# Altium footprint library DIP_LIB.PcbLib: 26 footprints (part 2 of 2)
Each footprint in its own frame and in the unit in brackets; x right, y up, seen from the top. Pads: shape width x height; smd on the part's side, far side on the other; paste and mask are expansions set on the pad; w line width, h text height; cw(c..) or ccw(c..) is an arc to the next point about the centre after c.
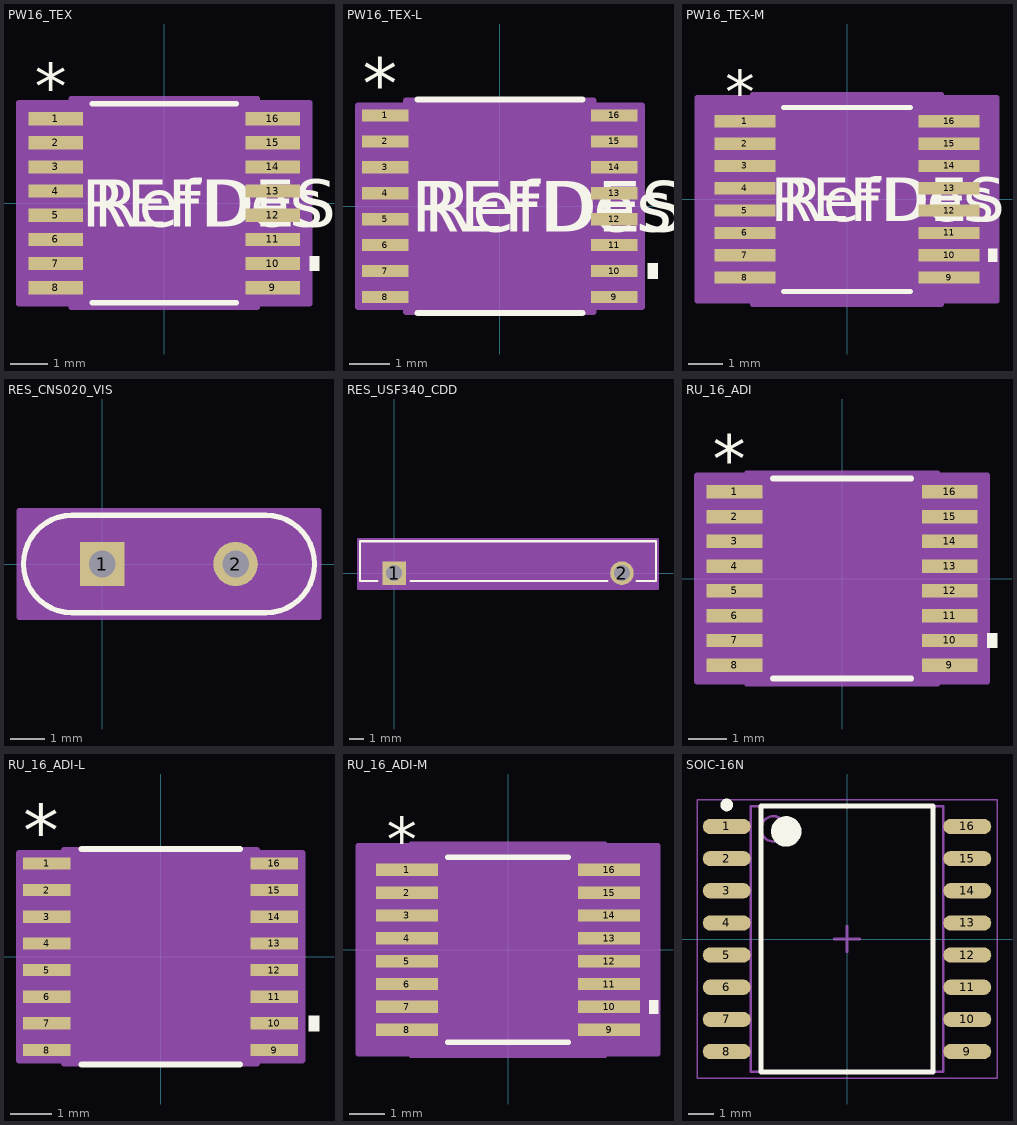
[diagram p1: the footprints below, top view; thin cyan lines are the x and y axes]

## PW16_TEX [mil]
pads (16):
  rect 58x14 smd paste+0 mask+0: 1(-115,89.57) 2(-115,63.98) 3(-115,38.39) 4(-115,12.8) 5(-115,-12.8) 6(-115,-38.39) 7(-115,-63.98) 8(-115,-89.57) 9(115,-89.57) 10(115,-63.98) 11(115,-38.39) 12(115,-12.8) 13(115,12.8) 14(115,38.39) 15(115,63.98) 16(115,89.57)
Top Overlay:
  region: 154,-56.48 164,-56.48 164,-71.48 154,-71.48
  lines w6: -76.42,-105.5 76.42,-105.5 ; -76.42,105.5 76.42,105.5
  text "REFDES" at -87.5,-25 h50
  text "*" at -137.5,98.57 h50
  text "RefDes" at -75,-25 h50
Mechanical 13:
  lines w0: -12,100.5 ccw(c0,100.5) 12,100.5
  lines w1: -130,-95.57 -130,-83.57 -88.5,-83.57 -88.5,-95.57 -130,-95.57 ; -130,-69.98 -130,-57.98 -88.5,-57.98 -88.5,-69.98 -130,-69.98 ; -130,-44.39 -130,-32.39 -88.5,-32.39 -88.5,-44.39 -130,-44.39 ; -130,-18.8 -130,-6.8 -88.5,-6.8 -88.5,-18.8 -130,-18.8 ; -130,6.8 -130,18.8 -88.5,18.8 -88.5,6.8 -130,6.8 ; -130,32.39 -130,44.39 -88.5,44.39 -88.5,32.39 -130,32.39 ; -130,57.98 -130,69.98 -88.5,69.98 -88.5,57.98 -130,57.98 ; -130,83.57 -130,95.57 -88.5,95.57 -88.5,83.57 -130,83.57 ; -88.5,-100.5 88.5,-100.5 88.5,100.5 -88.5,100.5 -88.5,-100.5 ; 88.5,-95.57 88.5,-83.57 130,-83.57 130,-95.57 88.5,-95.57 ; 88.5,-69.98 88.5,-57.98 130,-57.98 130,-69.98 88.5,-69.98 ; 88.5,-44.39 88.5,-32.39 130,-32.39 130,-44.39 88.5,-44.39 ; 88.5,-18.8 88.5,-6.8 130,-6.8 130,-18.8 88.5,-18.8 ; 88.5,6.8 88.5,18.8 130,18.8 130,6.8 88.5,6.8 ; 88.5,32.39 88.5,44.39 130,44.39 130,32.39 88.5,32.39 ; 88.5,57.98 88.5,69.98 130,69.98 130,57.98 88.5,57.98 ; 88.5,83.57 88.5,95.57 130,95.57 130,83.57 88.5,83.57
  text "*" at -86,47.5 h50
  text "RefDes2" at -87.5,-25 h50
Mechanical 15:
  region: -98.5,-106.57 -154,-106.57 -154,106.57 -98.5,106.57 -98.5,110.5 98.5,110.5 98.5,106.57 154,106.57 154,-106.57 98.5,-106.57 98.5,-110.5 -98.5,-110.5
  lines w6: -154,-106.57 -154,106.57 -98.5,106.57 -98.5,110.5 98.5,110.5 98.5,106.57 154,106.57 154,-106.57 98.5,-106.57 98.5,-110.5 -98.5,-110.5 -98.5,-106.57 -154,-106.57
3D body "PW16_TEX.step": height 47.09, standoff 0, extent -130,-100.51 130,100.51

## PW16_TEX-L [mil]
pads (16):
  rect 46x12 smd paste+0 mask+0: 1(-113,89.57) 2(-113,63.98) 3(-113,38.39) 4(-113,12.8) 5(-113,-12.8) 6(-113,-38.39) 7(-113,-63.98) 8(-113,-89.57) 9(113,-89.57) 10(113,-63.98) 11(113,-38.39) 12(113,-12.8) 13(113,12.8) 14(113,38.39) 15(113,63.98) 16(113,89.57)
Top Overlay:
  region: 146,-56.48 156,-56.48 156,-71.48 146,-71.48
  lines w6: -81.46,-105.5 81.46,-105.5 ; -81.46,105.5 81.46,105.5
  text "REFDES" at -87.5,-25 h50
  text "*" at -135.5,96.57 h50
  text "RefDes" at -75,-25 h50
Mechanical 13:
  lines w0: -12,100.5 ccw(c0,100.5) 12,100.5
  lines w1: -130,-95.57 -130,-83.57 -88.5,-83.57 -88.5,-95.57 -130,-95.57 ; -130,-69.98 -130,-57.98 -88.5,-57.98 -88.5,-69.98 -130,-69.98 ; -130,-44.39 -130,-32.39 -88.5,-32.39 -88.5,-44.39 -130,-44.39 ; -130,-18.8 -130,-6.8 -88.5,-6.8 -88.5,-18.8 -130,-18.8 ; -130,6.8 -130,18.8 -88.5,18.8 -88.5,6.8 -130,6.8 ; -130,32.39 -130,44.39 -88.5,44.39 -88.5,32.39 -130,32.39 ; -130,57.98 -130,69.98 -88.5,69.98 -88.5,57.98 -130,57.98 ; -130,83.57 -130,95.57 -88.5,95.57 -88.5,83.57 -130,83.57 ; -88.5,-100.5 88.5,-100.5 88.5,100.5 -88.5,100.5 -88.5,-100.5 ; 88.5,-95.57 88.5,-83.57 130,-83.57 130,-95.57 88.5,-95.57 ; 88.5,-69.98 88.5,-57.98 130,-57.98 130,-69.98 88.5,-69.98 ; 88.5,-44.39 88.5,-32.39 130,-32.39 130,-44.39 88.5,-44.39 ; 88.5,-18.8 88.5,-6.8 130,-6.8 130,-18.8 88.5,-18.8 ; 88.5,6.8 88.5,18.8 130,18.8 130,6.8 88.5,6.8 ; 88.5,32.39 88.5,44.39 130,44.39 130,32.39 88.5,32.39 ; 88.5,57.98 88.5,69.98 130,69.98 130,57.98 88.5,57.98 ; 88.5,83.57 88.5,95.57 130,95.57 130,83.57 88.5,83.57
  text "*" at -86,47.5 h50
  text "RefDes2" at -87.5,-25 h50
Mechanical 15:
  region: -92.5,-99.57 -140,-99.57 -140,99.57 -92.5,99.57 -92.5,104.5 92.5,104.5 92.5,99.57 140,99.57 140,-99.57 92.5,-99.57 92.5,-104.5 -92.5,-104.5
  lines w6: -140,-99.57 -140,99.57 -92.5,99.57 -92.5,104.5 92.5,104.5 92.5,99.57 140,99.57 140,-99.57 92.5,-99.57 92.5,-104.5 -92.5,-104.5 -92.5,-99.57 -140,-99.57
3D body "PW16_TEX.step": height 47.09, standoff 0, extent -130,-100.51 130,100.51

## PW16_TEX-M [mil]
pads (16):
  rect 70x14 smd paste+0 mask+0: 1(-117,89.57) 2(-117,63.98) 3(-117,38.39) 4(-117,12.8) 5(-117,-12.8) 6(-117,-38.39) 7(-117,-63.98) 8(-117,-89.57) 9(117,-89.57) 10(117,-63.98) 11(117,-38.39) 12(117,-12.8) 13(117,12.8) 14(117,38.39) 15(117,63.98) 16(117,89.57)
Top Overlay:
  region: 162,-56.48 172,-56.48 172,-71.48 162,-71.48
  lines w6: -72.42,-105.5 72.42,-105.5 ; -72.42,105.5 72.42,105.5
  text "RefDes" at -75,-25 h50
  text "*" at -139.5,98.57 h50
  text "REFDES" at -87.5,-25 h50
Mechanical 13:
  lines w0: -12,100.5 ccw(c0,100.5) 12,100.5
  lines w1: -130,-95.57 -88.5,-95.57 -88.5,-83.57 -130,-83.57 -130,-95.57 ; -130,-69.98 -88.5,-69.98 -88.5,-57.98 -130,-57.98 -130,-69.98 ; -130,-44.39 -88.5,-44.39 -88.5,-32.39 -130,-32.39 -130,-44.39 ; -130,-18.8 -88.5,-18.8 -88.5,-6.8 -130,-6.8 -130,-18.8 ; -130,6.8 -88.5,6.8 -88.5,18.8 -130,18.8 -130,6.8 ; -130,32.39 -88.5,32.39 -88.5,44.39 -130,44.39 -130,32.39 ; -130,57.98 -88.5,57.98 -88.5,69.98 -130,69.98 -130,57.98 ; -130,83.57 -88.5,83.57 -88.5,95.57 -130,95.57 -130,83.57 ; -88.5,-100.5 -88.5,100.5 88.5,100.5 88.5,-100.5 -88.5,-100.5 ; 88.5,-95.57 130,-95.57 130,-83.57 88.5,-83.57 88.5,-95.57 ; 88.5,-69.98 130,-69.98 130,-57.98 88.5,-57.98 88.5,-69.98 ; 88.5,-44.39 130,-44.39 130,-32.39 88.5,-32.39 88.5,-44.39 ; 88.5,-18.8 130,-18.8 130,-6.8 88.5,-6.8 88.5,-18.8 ; 88.5,6.8 130,6.8 130,18.8 88.5,18.8 88.5,6.8 ; 88.5,32.39 130,32.39 130,44.39 88.5,44.39 88.5,32.39 ; 88.5,57.98 130,57.98 130,69.98 88.5,69.98 88.5,57.98 ; 88.5,83.57 130,83.57 130,95.57 88.5,95.57 88.5,83.57
  text "RefDes2" at -87.5,-25 h50
  text "*" at -86,47.5 h50
Mechanical 15:
  region: -108.5,-116.57 -172,-116.57 -172,116.57 -108.5,116.57 -108.5,120.5 108.5,120.5 108.5,116.57 172,116.57 172,-116.57 108.5,-116.57 108.5,-120.5 -108.5,-120.5
  lines w6: -172,-116.57 -108.5,-116.57 -108.5,-120.5 108.5,-120.5 108.5,-116.57 172,-116.57 172,116.57 108.5,116.57 108.5,120.5 -108.5,120.5 -108.5,116.57 -172,116.57 -172,-116.57
3D body "PW16_TEX.step": height 47.09, standoff 0, extent -130,-100.51 130,100.51

## RES_CNS020_VIS [mil]
pads (2):
  rect 50x50 hole 30 paste-25 mask+0: 1(0,0)
  round 50 hole 30 paste-25 mask+0: 2(150,0)
Top Overlay:
  lines w6: -34,-55 cw(c-34,0) -34,55 184,55 cw(c184,0) 239,0 cw(c184,0) 184,-55 -34,-55
  text ".Designator" at -90,-120 h50
Mechanical 13:
  lines w1: -34,-50 cw(c-34,0) -34,50 184,50 cw(c184,0) 184,-50 -34,-50
Mechanical 15:
  region: 244,-60 -94,-60 -94,60 244,60
  lines w6: -94,-60 244,-60 244,60 -94,60 -94,-60
3D body "RES_CNS020_VIS.step": height 260, standoff -156.81, extent -84.02,-50 234.02,50

## RES_USF340_CDD [mil]
pads (2):
  rect 62x62 hole 42 paste-31 mask+0: 1(0,0)
  round 62 hole 42 paste-31 mask+0: 2(600,0)
Top Overlay:
  lines w6: -44.1,-21 -90,-21 -90,84 690,84 690,-21 638.78,-21 ; 44.1,-21 561.22,-21
  text ".Designator" at 162.5,-25 h50
Mechanical 13:
  lines w1: -85,-16 -85,79 685,79 685,-16 -85,-16
  text ".Designator" at 162.5,-25 h50
Mechanical 15:
  region: 695,89 -95,89 -95,-41 695,-41
  lines w6: -95,-41 695,-41 695,89 -95,89 -95,-41

## RU_16_ADI [mm]
pads (16):
  rect 1.461x0.351 smd paste+0 mask+0: 1(-2.825,2.275) 2(-2.825,1.625) 3(-2.825,0.975) 4(-2.825,0.325) 5(-2.825,-0.325) 6(-2.825,-0.975) 7(-2.825,-1.625) 8(-2.825,-2.275) 9(2.825,-2.275) 10(2.825,-1.625) 11(2.825,-0.975) 12(2.825,-0.325) 13(2.825,0.325) 14(2.825,0.975) 15(2.825,1.625) 16(2.825,2.275)
Top Overlay:
  region: 3.81,-1.435 4.064,-1.435 4.064,-1.816 3.81,-1.816
  lines w0.152: -1.812,-2.627 1.812,-2.627 ; -1.812,2.627 1.812,2.627
  text "*" at -3.397,2.499 h1.27
  text ".Designator" at -3.492,-0.635 h1.27
Mechanical 13:
  lines w0.025: -0.305,2.5 ccw(c0,2.5) 0.305,2.5 ; -3.2,-2.425 -2.25,-2.425 -2.25,-2.125 -3.2,-2.125 -3.2,-2.425 ; -3.2,-1.775 -2.25,-1.775 -2.25,-1.475 -3.2,-1.475 -3.2,-1.775 ; -3.2,-1.125 -2.25,-1.125 -2.25,-0.825 -3.2,-0.825 -3.2,-1.125 ; -3.2,-0.475 -2.25,-0.475 -2.25,-0.175 -3.2,-0.175 -3.2,-0.475 ; -3.2,0.175 -2.25,0.175 -2.25,0.475 -3.2,0.475 -3.2,0.175 ; -3.2,0.825 -2.25,0.825 -2.25,1.125 -3.2,1.125 -3.2,0.825 ; -3.2,1.475 -2.25,1.475 -2.25,1.775 -3.2,1.775 -3.2,1.475 ; -3.2,2.125 -2.25,2.125 -2.25,2.425 -3.2,2.425 -3.2,2.125 ; -2.25,-2.5 -2.25,2.5 2.25,2.5 2.25,-2.5 -2.25,-2.5 ; 2.25,-2.425 3.2,-2.425 3.2,-2.125 2.25,-2.125 2.25,-2.425 ; 2.25,-1.775 3.2,-1.775 3.2,-1.475 2.25,-1.475 2.25,-1.775 ; 2.25,-1.125 3.2,-1.125 3.2,-0.825 2.25,-0.825 2.25,-1.125 ; 2.25,-0.475 3.2,-0.475 3.2,-0.175 2.25,-0.175 2.25,-0.475 ; 2.25,0.175 3.2,0.175 3.2,0.475 2.25,0.475 2.25,0.175 ; 2.25,0.825 3.2,0.825 3.2,1.125 2.25,1.125 2.25,0.825 ; 2.25,1.475 3.2,1.475 3.2,1.775 2.25,1.775 2.25,1.475 ; 2.25,2.125 3.2,2.125 3.2,2.425 2.25,2.425 2.25,2.125
  text ".Designator" at -3.492,-0.635 h1.27
  text "*" at -2.187,1.154 h1.27
Mechanical 15:
  region: -2.504,-2.704 -3.81,-2.704 -3.81,2.704 -2.504,2.704 -2.504,2.754 2.504,2.754 2.504,2.704 3.81,2.704 3.81,-2.704 2.504,-2.704 2.504,-2.754 -2.504,-2.754
  lines w0.152: -3.81,-2.704 -2.504,-2.704 -2.504,-2.754 2.504,-2.754 2.504,-2.704 3.81,-2.704 3.81,2.704 2.504,2.704 2.504,2.754 -2.504,2.754 -2.504,2.704 -3.81,2.704 -3.81,-2.704
3D body "RU_16_ADI.step": height 1.2, standoff 0, extent -3.2,-2.5 3.2,2.5

## RU_16_ADI-L [mm]
pads (16):
  rect 1.156x0.3 smd paste+0 mask+0: 1(-2.774,2.275) 2(-2.774,1.625) 3(-2.774,0.975) 4(-2.774,0.325) 5(-2.774,-0.325) 6(-2.774,-0.975) 7(-2.774,-1.625) 8(-2.774,-2.275) 9(2.774,-2.275) 10(2.774,-1.625) 11(2.774,-0.975) 12(2.774,-0.325) 13(2.774,0.325) 14(2.774,0.975) 15(2.774,1.625) 16(2.774,2.275)
Top Overlay:
  region: 3.606,-1.435 3.86,-1.435 3.86,-1.816 3.606,-1.816
  lines w0.152: -1.932,-2.627 1.932,-2.627 ; -1.932,2.627 1.932,2.627
  text "*" at -3.346,2.448 h1.27
  text ".Designator" at -3.492,-0.635 h1.27
Mechanical 13:
  lines w0.025: -0.305,2.5 ccw(c0,2.5) 0.305,2.5 ; -3.2,-2.425 -2.25,-2.425 -2.25,-2.125 -3.2,-2.125 -3.2,-2.425 ; -3.2,-1.775 -2.25,-1.775 -2.25,-1.475 -3.2,-1.475 -3.2,-1.775 ; -3.2,-1.125 -2.25,-1.125 -2.25,-0.825 -3.2,-0.825 -3.2,-1.125 ; -3.2,-0.475 -2.25,-0.475 -2.25,-0.175 -3.2,-0.175 -3.2,-0.475 ; -3.2,0.175 -2.25,0.175 -2.25,0.475 -3.2,0.475 -3.2,0.175 ; -3.2,0.825 -2.25,0.825 -2.25,1.125 -3.2,1.125 -3.2,0.825 ; -3.2,1.475 -2.25,1.475 -2.25,1.775 -3.2,1.775 -3.2,1.475 ; -3.2,2.125 -2.25,2.125 -2.25,2.425 -3.2,2.425 -3.2,2.125 ; -2.25,-2.5 -2.25,2.5 2.25,2.5 2.25,-2.5 -2.25,-2.5 ; 2.25,-2.425 3.2,-2.425 3.2,-2.125 2.25,-2.125 2.25,-2.425 ; 2.25,-1.775 3.2,-1.775 3.2,-1.475 2.25,-1.475 2.25,-1.775 ; 2.25,-1.125 3.2,-1.125 3.2,-0.825 2.25,-0.825 2.25,-1.125 ; 2.25,-0.475 3.2,-0.475 3.2,-0.175 2.25,-0.175 2.25,-0.475 ; 2.25,0.175 3.2,0.175 3.2,0.475 2.25,0.475 2.25,0.175 ; 2.25,0.825 3.2,0.825 3.2,1.125 2.25,1.125 2.25,0.825 ; 2.25,1.475 3.2,1.475 3.2,1.775 2.25,1.775 2.25,1.475 ; 2.25,2.125 3.2,2.125 3.2,2.425 2.25,2.425 2.25,2.125
  text ".Designator" at -3.492,-0.635 h1.27
  text "*" at -2.187,1.154 h1.27
Mechanical 15:
  region: -2.352,-2.527 -3.454,-2.527 -3.454,2.527 -2.352,2.527 -2.352,2.602 2.352,2.602 2.352,2.527 3.454,2.527 3.454,-2.527 2.352,-2.527 2.352,-2.602 -2.352,-2.602
  lines w0.152: -3.454,-2.527 -2.352,-2.527 -2.352,-2.602 2.352,-2.602 2.352,-2.527 3.454,-2.527 3.454,2.527 2.352,2.527 2.352,2.602 -2.352,2.602 -2.352,2.527 -3.454,2.527 -3.454,-2.527
3D body "RU_16_ADI.step": height 1.2, standoff 0, extent -3.2,-2.5 3.2,2.5

## RU_16_ADI-M [mm]
pads (16):
  rect 1.766x0.351 smd paste+0 mask+0: 1(-2.876,2.275) 2(-2.876,1.625) 3(-2.876,0.975) 4(-2.876,0.325) 5(-2.876,-0.325) 6(-2.876,-0.975) 7(-2.876,-1.625) 8(-2.876,-2.275) 9(2.876,-2.275) 10(2.876,-1.625) 11(2.876,-0.975) 12(2.876,-0.325) 13(2.876,0.325) 14(2.876,0.975) 15(2.876,1.625) 16(2.876,2.275)
Top Overlay:
  region: 4.013,-1.435 4.267,-1.435 4.267,-1.816 4.013,-1.816
  lines w0.152: -1.711,-2.627 1.711,-2.627 ; -1.711,2.627 1.711,2.627
  text ".Designator" at -3.492,-0.635 h1.27
  text "*" at -3.447,2.499 h1.27
Mechanical 13:
  lines w0.025: -0.305,2.5 ccw(c0,2.5) 0.305,2.5 ; -3.2,-2.425 -3.2,-2.125 -2.25,-2.125 -2.25,-2.425 -3.2,-2.425 ; -3.2,-1.775 -3.2,-1.475 -2.25,-1.475 -2.25,-1.775 -3.2,-1.775 ; -3.2,-1.125 -3.2,-0.825 -2.25,-0.825 -2.25,-1.125 -3.2,-1.125 ; -3.2,-0.475 -3.2,-0.175 -2.25,-0.175 -2.25,-0.475 -3.2,-0.475 ; -3.2,0.175 -3.2,0.475 -2.25,0.475 -2.25,0.175 -3.2,0.175 ; -3.2,0.825 -3.2,1.125 -2.25,1.125 -2.25,0.825 -3.2,0.825 ; -3.2,1.475 -3.2,1.775 -2.25,1.775 -2.25,1.475 -3.2,1.475 ; -3.2,2.125 -3.2,2.425 -2.25,2.425 -2.25,2.125 -3.2,2.125 ; -2.25,-2.5 2.25,-2.5 2.25,2.5 -2.25,2.5 -2.25,-2.5 ; 2.25,-2.425 2.25,-2.125 3.2,-2.125 3.2,-2.425 2.25,-2.425 ; 2.25,-1.775 2.25,-1.475 3.2,-1.475 3.2,-1.775 2.25,-1.775 ; 2.25,-1.125 2.25,-0.825 3.2,-0.825 3.2,-1.125 2.25,-1.125 ; 2.25,-0.475 2.25,-0.175 3.2,-0.175 3.2,-0.475 2.25,-0.475 ; 2.25,0.175 2.25,0.475 3.2,0.475 3.2,0.175 2.25,0.175 ; 2.25,0.825 2.25,1.125 3.2,1.125 3.2,0.825 2.25,0.825 ; 2.25,1.475 2.25,1.775 3.2,1.775 3.2,1.475 2.25,1.475 ; 2.25,2.125 2.25,2.425 3.2,2.425 3.2,2.125 2.25,2.125
  text "*" at -2.187,1.154 h1.27
  text ".Designator" at -3.492,-0.635 h1.27
Mechanical 15:
  region: -2.758,-2.958 -4.267,-2.958 -4.267,2.958 -2.758,2.958 -2.758,3.008 2.758,3.008 2.758,2.958 4.267,2.958 4.267,-2.958 2.758,-2.958 2.758,-3.008 -2.758,-3.008
  lines w0.152: -4.267,-2.958 -4.267,2.958 -2.758,2.958 -2.758,3.008 2.758,3.008 2.758,2.958 4.267,2.958 4.267,-2.958 2.758,-2.958 2.758,-3.008 -2.758,-3.008 -2.758,-2.958 -4.267,-2.958
3D body "RU_16_ADI.step": height 1.2, standoff 0, extent -3.2,-2.5 3.2,2.5

## SOIC-16N [mm] "SOIC, 16-Leads, Body 10,30x7,50mm, Pitch 1,27mm, IPC Medium Density"
height 2.65
pads (16):
  oval 1.9x0.6 smd: 1(-4.75,4.445) 2(-4.75,3.175) 3(-4.75,1.905) 4(-4.75,0.635) 5(-4.75,-0.635) 6(-4.75,-1.905) 7(-4.75,-3.175) 8(-4.75,-4.445) 9(4.75,-4.445) 10(4.75,-3.175) 11(4.75,-1.905) 12(4.75,-0.635) 13(4.75,0.635) 14(4.75,1.905) 15(4.75,3.175) 16(4.75,4.445)
Top Overlay:
  circle w0.6: c-2.4,4.25 r0.3
  circle w0.25: c-4.75,5.295 r0.125
  lines w0.2: -3.4,-5.25 3.4,-5.25 3.4,5.25 -3.4,5.25 -3.4,-5.25
Mechanical 13:
  circle w0.1: c-2.9,4.35 r0.5
  lines w0.1: -3.8,-5.25 3.8,-5.25 3.8,5.25 -3.8,5.25 -3.8,-5.25
Mechanical 15:
  lines w0.05: -5.925,-5.5 5.925,-5.5 5.925,5.5 -5.925,5.5 -5.925,-5.5
  lines w0.1: -0.5,0 0.5,0 ; 0,-0.5 0,0.5
3D body: height 2.65, standoff 0.1, extent -3.8,-5.25 3.8,5.25

## SOP10 [mil]